# EAGLE library part LDC1000_TH (library 1)
Inductance Sensor Serial, Thermal Pad
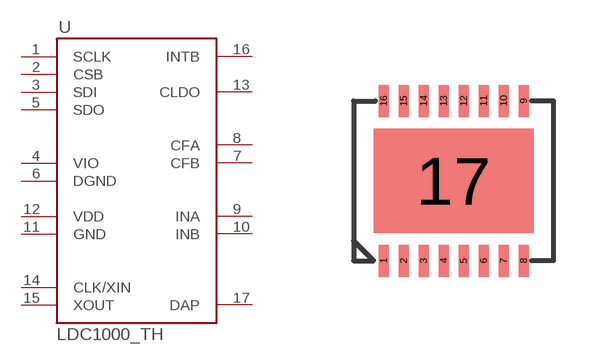
[diagram p0: symbol with the pads of SON-16_TH; footprint SON-16_TH]

Designator prefix U

## LDC1000_TH  [SON-16_TH]
1  SCLK
2  CSB
3  SDI
4  VIO
5  SDO
6  DGND
7  CFB
8  CFA
9  INA
10  INB
11  GND
12  VDD
13  CLDO
14  CLK/XIN
15  XOUT
16  INTB
17  DAP

## Footprint SON-16_TH (pad centres in mm)
smd 0.25 x 0.8: 1 -1.75,-2; 2 -1.25,-2; 3 -0.75,-2; 4 -0.25,-2; 5 0.25,-2; 6 0.75,-2; 7 1.25,-2; 8 1.75,-2; 9 1.75,2; 10 1.25,2; 11 0.75,2; 12 0.25,2; 13 -0.25,2; 14 -0.75,2; 15 -1.25,2; 16 -1.75,2
smd 4 x 2.6: 17 0,0